# EAGLE library part PIC10F222 (library FaBo-MPU)
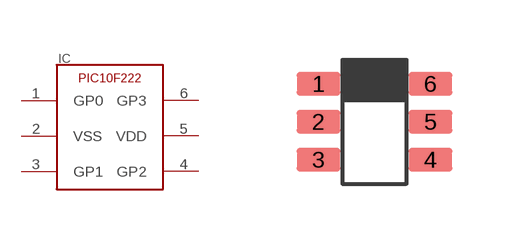
[diagram p4: symbol with the pads of SOT-23-6; footprint SOT-23-6]

Designator prefix IC

## PIC10F222  [SOT-23-6]
1  GP0
2  VSS
3  GP1
4  GP2
5  VDD
6  GP3

## Footprint SOT-23-6 (pad centres in mm)
smd 1.1 x 0.6: 1 -1.4,0.95; 2 -1.4,0; 3 -1.4,-0.95; 4 1.4,-0.95; 5 1.4,0; 6 1.4,0.95